# EAGLE library part CARRIER_A4988 (library lib_s77_eggbot)
A4988 carrier board based on Pololu #1182 drawings
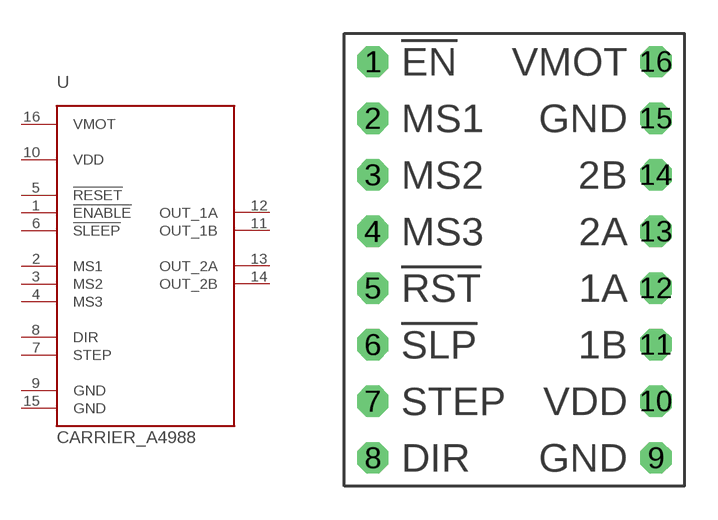
[diagram p0: symbol with the pads of CARRIER_A4988; footprint CARRIER_A4988]

Designator prefix U

## CARRIER_A4988  [CARRIER_A4988]
1  !ENABLE  in
2  MS1  in
3  MS2  in
4  MS3  in
5  !RESET  in
6  !SLEEP  in
7  STEP  in
8  DIR  in
9  GND  pwr
10  VDD  pwr
11  OUT_1B  out
12  OUT_1A  out
13  OUT_2A  out
14  OUT_2B  out
15  GND  pwr
16  VMOT  pwr

## Footprint CARRIER_A4988 (pad centres in mm)
A4988 carrier board based on https://www.pololu.com/file/0J1082/a4988-stepper-motor-driver-carrier-dimension-diagram.pdf
drill 0.9 octagon: 1 -6.35,10.16; 2 -6.35,7.62; 3 -6.35,5.08; 4 -6.35,2.54; 5 -6.35,0; 6 -6.35,-2.54; 7 -6.35,-5.08; 8 -6.35,-7.62; 9 6.35,-7.62; 10 6.35,-5.08; 11 6.35,-2.54; 12 6.35,0; 13 6.35,2.54; 14 6.35,5.08; 15 6.35,7.62; 16 6.35,10.16